# EAGLE library part ESP8266 (library wetl)
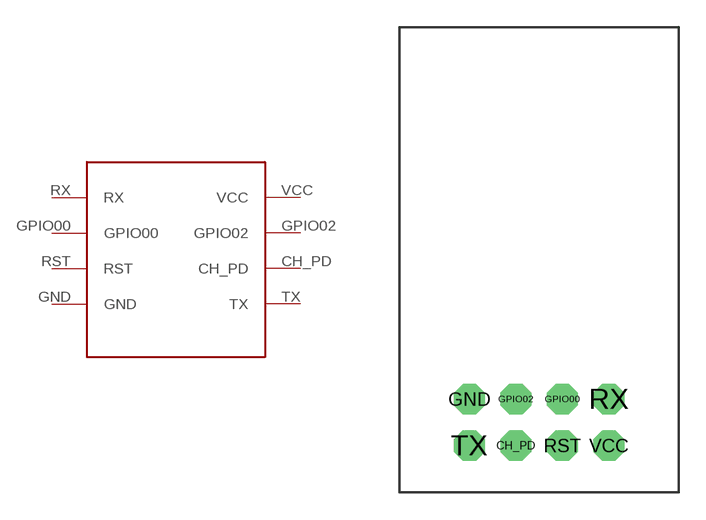
[diagram p0: symbol with the pads of ESP-01; footprint ESP-01]

Designator prefix -

## ESP8266  [ESP-01]
CH_PD  CH_PD
GND  GND
GPIO00  GPIO00
GPIO02  GPIO02
RST  RST
RX  RX
TX  TX
VCC  VCC

## Footprint ESP-01 (pad centres in mm)
drill 1.016 pad 1.676 octagon: CH_PD -1.27,-1.27; GND -3.81,1.27; GPIO00 1.27,1.27; GPIO02 -1.27,1.27; RST 1.27,-1.27; RX 3.81,1.27; TX -3.81,-1.27; VCC 3.81,-1.27